# Altium footprint library IIDKLib.PcbLib: 9 footprints
Each footprint in its own frame and in the unit in brackets; x right, y up, seen from the top. Pads: shape width x height; smd on the part's side, far side on the other; paste and mask are expansions set on the pad; w line width, h text height; cw(c..) or ccw(c..) is an arc to the next point about the centre after c.
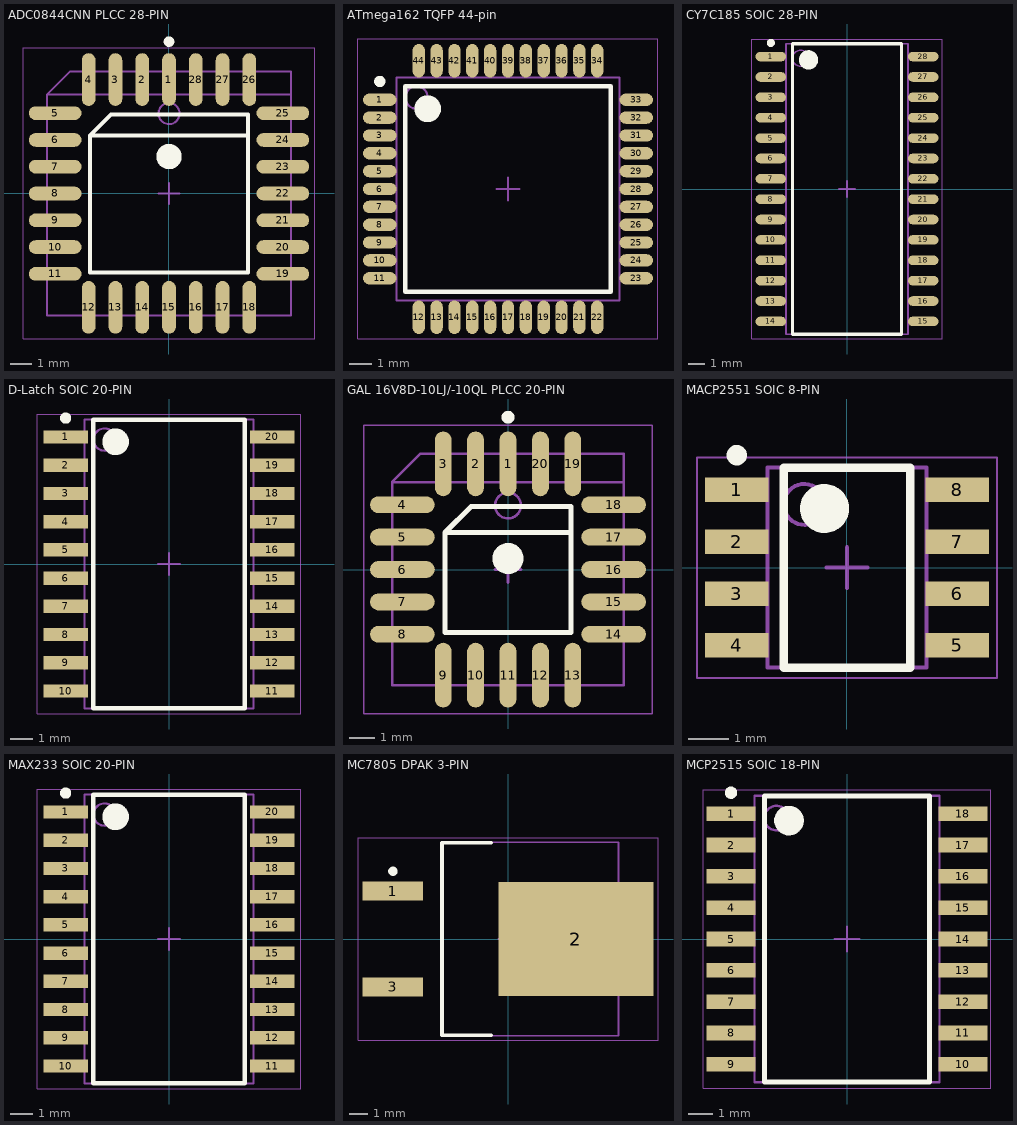
[diagram p0: the footprints below, top view; thin cyan lines are the x and y axes]

## ADC0844CNN PLCC 28-PIN [mm] "Leaded Chip Carrier, 28-Leads, Body 12,45x12,45mm, Pitch 1,270mm, IPC Medium Density"
height 4.57
pads (28):
  oval 0.65x2.5 smd: 1(0,5.4) 2(-1.27,5.4) 3(-2.54,5.4) 4(-3.81,5.4) 12(-3.81,-5.4) 13(-2.54,-5.4) 14(-1.27,-5.4) 15(0,-5.4) 16(1.27,-5.4) 17(2.54,-5.4) 18(3.81,-5.4) 26(3.81,5.4) 27(2.54,5.4) 28(1.27,5.4)
  oval 2.5x0.65 smd: 5(-5.4,3.81) 6(-5.4,2.54) 7(-5.4,1.27) 8(-5.4,0) 9(-5.4,-1.27) 10(-5.4,-2.54) 11(-5.4,-3.81) 19(5.4,-3.81) 20(5.4,-2.54) 21(5.4,-1.27) 22(5.4,0) 23(5.4,1.27) 24(5.4,2.54) 25(5.4,3.81)
Top Overlay:
  circle w0.25: c0,7.2 r0.125
  circle w0.6: c0,1.75 r0.3
  lines w0.2: 3.75,2.75 -3.75,2.75 ; -3.75,2.75 -2.75,3.75 3.75,3.75 3.75,-3.75 -3.75,-3.75 -3.75,2.75
Mechanical 13:
  circle w0.1: c0,3.79 r0.5
  lines w0.1: 5.79,4.69 -5.79,4.69 ; -5.79,4.69 -5.79,-5.79 5.79,-5.79 5.79,5.79 -4.69,5.79 -5.79,4.69
Mechanical 15:
  lines w0.05: -6.9,-6.9 -6.9,6.9 6.9,6.9 6.9,-6.9 -6.9,-6.9
  lines w0.1: -0.5,0 0.5,0 ; 0,-0.5 0,0.5
3D body: height 4.57, standoff 0.5, extent -5.79,-5.79 5.79,5.79

## ATmega162 TQFP 44-pin [mm] "TQFP, 44-Leads, Body 10,00x10,00mm, Pitch 0,80mm, IPC Medium Density"
height 1.2
pads (44):
  oval 1.5x0.55 smd: 1(-17.25,15.5) 2(-17.25,14.7) 3(-17.25,13.9) 4(-17.25,13.1) 5(-17.25,12.3) 6(-17.25,11.5) 7(-17.25,10.7) 8(-17.25,9.9) 9(-17.25,9.1) 10(-17.25,8.3) 11(-17.25,7.5) 23(-5.75,7.5) 24(-5.75,8.3) 25(-5.75,9.1) 26(-5.75,9.9) 27(-5.75,10.7) 28(-5.75,11.5) 29(-5.75,12.3) 30(-5.75,13.1) 31(-5.75,13.9) 32(-5.75,14.7) 33(-5.75,15.5)
  oval 0.55x1.5 smd: 12(-15.5,5.75) 13(-14.7,5.75) 14(-13.9,5.75) 15(-13.1,5.75) 16(-12.3,5.75) 17(-11.5,5.75) 18(-10.7,5.75) 19(-9.9,5.75) 20(-9.1,5.75) 21(-8.3,5.75) 22(-7.5,5.75) 34(-7.5,17.25) 35(-8.3,17.25) 36(-9.1,17.25) 37(-9.9,17.25) 38(-10.7,17.25) 39(-11.5,17.25) 40(-12.3,17.25) 41(-13.1,17.25) 42(-13.9,17.25) 43(-14.7,17.25) 44(-15.5,17.25)
Top Overlay:
  circle w0.6: c-15.1,15.1 r0.3
  circle w0.25: c-17.25,16.325 r0.125
  lines w0.2: -16.1,6.9 -6.9,6.9 -6.9,16.1 -16.1,16.1 -16.1,6.9
Mechanical 13:
  circle w0.1: c-15.6,15.6 r0.5
  lines w0.1: -16.5,6.5 -6.5,6.5 -6.5,16.5 -16.5,16.5 -16.5,6.5
Mechanical 15:
  lines w0.05: -18.225,4.775 -4.775,4.775 -4.775,18.225 -18.225,18.225 -18.225,4.775
  lines w0.1: -12,11.5 -11,11.5 ; -11.5,11 -11.5,12
3D body: height 1.2, standoff 0.05, extent -16.5,6.5 -6.5,16.5

## CY7C185 SOIC 28-PIN [mm] "SOIC, 28-Leads, Body 17,90x7,50mm, Pitch 1,27mm, IPC Medium Density"
height 2.67
pads (28):
  oval 1.9x0.6 smd: 1(-4.75,8.255) 2(-4.75,6.985) 3(-4.75,5.715) 4(-4.75,4.445) 5(-4.75,3.175) 6(-4.75,1.905) 7(-4.75,0.635) 8(-4.75,-0.635) 9(-4.75,-1.905) 10(-4.75,-3.175) 11(-4.75,-4.445) 12(-4.75,-5.715) 13(-4.75,-6.985) 14(-4.75,-8.255) 15(4.75,-8.255) 16(4.75,-6.985) 17(4.75,-5.715) 18(4.75,-4.445) 19(4.75,-3.175) 20(4.75,-1.905) 21(4.75,-0.635) 22(4.75,0.635) 23(4.75,1.905) 24(4.75,3.175) 25(4.75,4.445) 26(4.75,5.715) 27(4.75,6.985) 28(4.75,8.255)
Top Overlay:
  circle w0.25: c-4.75,9.105 r0.125
  circle w0.6: c-2.4,8.05 r0.3
  lines w0.2: -3.4,-9.05 -3.4,9.05 3.4,9.05 3.4,-9.05 -3.4,-9.05
Mechanical 13:
  circle w0.1: c-2.9,8.15 r0.5
  lines w0.1: -3.8,-9.05 -3.8,9.05 3.8,9.05 3.8,-9.05 -3.8,-9.05
Mechanical 15:
  lines w0.05: -5.925,-9.35 -5.925,9.35 5.925,9.35 5.925,-9.35 -5.925,-9.35
  lines w0.1: -0.5,0 0.5,0 ; 0,-0.5 0,0.5
3D body: height 2.67, standoff 0.1, extent -3.8,-9.05 3.8,9.05

## D-Latch SOIC 20-PIN [mm] "SOIC, 20-Leads, Body 12,80x7,50mm, Pitch 1,27mm, IPC Medium Density"
height 2.65
pads (20):
  rect 2x0.6 smd: 1(-4.65,5.715) 2(-4.65,4.445) 3(-4.65,3.175) 4(-4.65,1.905) 5(-4.65,0.635) 6(-4.65,-0.635) 7(-4.65,-1.905) 8(-4.65,-3.175) 9(-4.65,-4.445) 10(-4.65,-5.715) 11(4.65,-5.715) 12(4.65,-4.445) 13(4.65,-3.175) 14(4.65,-1.905) 15(4.65,-0.635) 16(4.65,0.635) 17(4.65,1.905) 18(4.65,3.175) 19(4.65,4.445) 20(4.65,5.715)
Top Overlay:
  circle w0.6: c-2.4,5.5 r0.3
  circle w0.25: c-4.65,6.565 r0.125
  lines w0.2: -3.4,-6.5 3.4,-6.5 3.4,6.5 -3.4,6.5 -3.4,-6.5
Mechanical 13:
  circle w0.1: c-2.9,5.6 r0.5
  lines w0.1: -3.8,-6.5 3.8,-6.5 3.8,6.5 -3.8,6.5 -3.8,-6.5
Mechanical 15:
  lines w0.05: -5.925,-6.75 5.925,-6.75 5.925,6.75 -5.925,6.75 -5.925,-6.75
  lines w0.1: -0.5,0 0.5,0 ; 0,-0.5 0,0.5
3D body: height 2.65, standoff 0.1, extent -3.8,-6.5 3.8,6.5

## GAL 16V8D-10LJ/-10QL PLCC 20-PIN [mm] "Leaded Chip Carrier, 20-Leads, Body 9,79x9,79mm, Pitch 1,250mm, IPC Medium Density"
height 4.52
pads (20):
  oval 0.65x2.5 smd: 1(0,4.075) 2(-1.25,4.075) 3(-2.5,4.075) 9(-2.5,-4.075) 10(-1.25,-4.075) 11(0,-4.075) 12(1.25,-4.075) 13(2.5,-4.075) 19(2.5,4.075) 20(1.25,4.075)
  oval 2.5x0.65 smd: 4(-4.075,2.5) 5(-4.075,1.25) 6(-4.075,0) 7(-4.075,-1.25) 8(-4.075,-2.5) 14(4.075,-2.5) 15(4.075,-1.25) 16(4.075,0) 17(4.075,1.25) 18(4.075,2.5)
Top Overlay:
  circle w0.25: c0,5.875 r0.125
  circle w0.6: c0,0.425 r0.3
  lines w0.2: 2.425,1.425 -2.425,1.425 ; -2.425,1.425 -1.425,2.425 2.425,2.425 2.425,-2.425 -2.425,-2.425 -2.425,1.425
Mechanical 13:
  circle w0.1: c0,2.47 r0.5
  lines w0.1: 4.47,3.37 -4.47,3.37 ; -4.47,3.37 -4.47,-4.47 4.47,-4.47 4.47,4.47 -3.37,4.47 -4.47,3.37
Mechanical 15:
  lines w0.05: -5.575,-5.575 -5.575,5.575 5.575,5.575 5.575,-5.575 -5.575,-5.575
  lines w0.1: -0.5,0 0.5,0 ; 0,-0.5 0,0.5
3D body: height 4.52, standoff 0.5, extent -4.47,-4.47 4.47,4.47

## MACP2551 SOIC 8-PIN [mm] "SOIC, 8-Leads, Body 4,90x3,90mm, Pitch 1,27mm, IPC Medium Density"
height 1.75
pads (8):
  rect 1.55x0.6 smd: 1(-2.7,1.905) 2(-2.7,0.635) 3(-2.7,-0.635) 4(-2.7,-1.905) 5(2.7,-1.905) 6(2.7,-0.635) 7(2.7,0.635) 8(2.7,1.905)
Top Overlay:
  circle w0.25: c-2.7,2.755 r0.125
  circle w0.6: c-0.55,1.45 r0.3
  lines w0.2: -1.55,-2.45 -1.55,2.45 1.55,2.45 1.55,-2.45 -1.55,-2.45
Mechanical 13:
  circle w0.1: c-1.05,1.55 r0.5
  lines w0.1: -1.95,-2.45 -1.95,2.45 1.95,2.45 1.95,-2.45 -1.95,-2.45
Mechanical 15:
  lines w0.05: -3.675,-2.7 -3.675,2.7 3.675,2.7 3.675,-2.7 -3.675,-2.7
  lines w0.1: -0.5,0 0.5,0 ; 0,-0.5 0,0.5
3D body: height 1.75, standoff 0.1, extent -1.95,-2.45 1.95,2.45

## MAX233 SOIC 20-PIN [mm] "SOIC, 20-Leads, Body 12,80x7,50mm, Pitch 1,27mm, IPC Medium Density"
height 2.65
pads (20):
  rect 2x0.6 smd: 1(-4.65,5.715) 2(-4.65,4.445) 3(-4.65,3.175) 4(-4.65,1.905) 5(-4.65,0.635) 6(-4.65,-0.635) 7(-4.65,-1.905) 8(-4.65,-3.175) 9(-4.65,-4.445) 10(-4.65,-5.715) 11(4.65,-5.715) 12(4.65,-4.445) 13(4.65,-3.175) 14(4.65,-1.905) 15(4.65,-0.635) 16(4.65,0.635) 17(4.65,1.905) 18(4.65,3.175) 19(4.65,4.445) 20(4.65,5.715)
Top Overlay:
  circle w0.25: c-4.65,6.565 r0.125
  circle w0.6: c-2.4,5.5 r0.3
  lines w0.2: -3.4,-6.5 -3.4,6.5 3.4,6.5 3.4,-6.5 -3.4,-6.5
Mechanical 13:
  circle w0.1: c-2.9,5.6 r0.5
  lines w0.1: -3.8,-6.5 -3.8,6.5 3.8,6.5 3.8,-6.5 -3.8,-6.5
Mechanical 15:
  lines w0.05: -5.925,-6.75 -5.925,6.75 5.925,6.75 5.925,-6.75 -5.925,-6.75
  lines w0.1: -0.5,0 0.5,0 ; 0,-0.5 0,0.5
3D body: height 2.65, standoff 0.1, extent -3.8,-6.5 3.8,6.5

## MC7805 DPAK 3-PIN [mm] "D2-PAK, 3-Pads, Body 7,77x8,48mm (max), IPC Medium Density"
height 4.58
pads (3):
  rect 3.2x1 smd: 1(-6.1,2.54) 3(-6.1,-2.54)
  rect 8.2x6.05 smd: 2(3.6,0)
Top Overlay:
  circle w0.25: c-6.1,3.59 r0.125
  lines w0.2: -0.9,-5.1 -3.5,-5.1 -3.5,5.1 -0.9,5.1
Mechanical 13:
  lines w0.1: -3.5,-5.125 5.85,-5.125 5.85,5.125 -3.5,5.125 -3.5,-5.125
Mechanical 15:
  lines w0.05: -7.95,-5.375 7.95,-5.375 7.95,5.375 -7.95,5.375 -7.95,-5.375
  lines w0.1: -0.5,0 0.5,0 ; 0,-0.5 0,0.5
3D body: height 4.58, standoff 0, extent -3.5,-5.125 5.85,5.125

## MCP2515 SOIC 18-PIN [mm] "SOIC, 18-Leads, Body 11,55x7,50mm, Pitch 1,27mm, IPC Medium Density"
height 2.65
pads (18):
  rect 2x0.6 smd: 1(-4.7,5.08) 2(-4.7,3.81) 3(-4.7,2.54) 4(-4.7,1.27) 5(-4.7,0) 6(-4.7,-1.27) 7(-4.7,-2.54) 8(-4.7,-3.81) 9(-4.7,-5.08) 10(4.7,-5.08) 11(4.7,-3.81) 12(4.7,-2.54) 13(4.7,-1.27) 14(4.7,0) 15(4.7,1.27) 16(4.7,2.54) 17(4.7,3.81) 18(4.7,5.08)
Top Overlay:
  circle w0.25: c-4.7,5.93 r0.125
  circle w0.6: c-2.35,4.8 r0.3
  lines w0.2: -3.35,-5.8 -3.35,5.8 3.35,5.8 3.35,-5.8 -3.35,-5.8
Mechanical 13:
  circle w0.1: c-2.85,4.9 r0.5
  lines w0.1: -3.75,-5.8 -3.75,5.8 3.75,5.8 3.75,-5.8 -3.75,-5.8
Mechanical 15:
  lines w0.05: -5.825,-6.05 -5.825,6.05 5.825,6.05 5.825,-6.05 -5.825,-6.05
  lines w0.1: -0.5,0 0.5,0 ; 0,-0.5 0,0.5
3D body: height 2.65, standoff 0.1, extent -3.75,-5.8 3.75,5.8